# Altium integrated library IRFP460.IntLib: 1 symbol
Pins are listed as number, name and electrical type; pins without a type are passive.

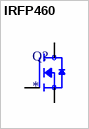
[diagram p0: symbol IRFP460]

## IRFP460
designator Q?
N-Channel 500 V 20A (Tc) 280W (Tc) Through Hole TO-247AC; MP: IRFP460; MF: Vishay Siliconix; SnapEDA_Link: https://www.snapeda.com/parts/IRFP460/Vishay+Siliconix/view-part/?ref=snap; Package: TO-247 Vishay Siliconix; Check_prices: https://www.snapeda.com/parts/IRFP460/Vishay+Siliconix/view-part/?ref=eda; Purchase-URL: https://pricing.snapeda.com/search/part/IRFP460/?ref=eda; Price: None; Value: *; Availability: In Stock
footprint TO546P1587X531X2511-3
pins: 1 G, 2 D, 3 S